# Altium footprint library Common-Parts-Library.PcbLib: 530 footprints (part 28 of 34)
Each footprint in its own frame and in the unit in brackets; x right, y up, seen from the top. Pads: shape width x height; smd on the part's side, far side on the other; paste and mask are expansions set on the pad; w line width, h text height; cw(c..) or ccw(c..) is an arc to the next point about the centre after c.
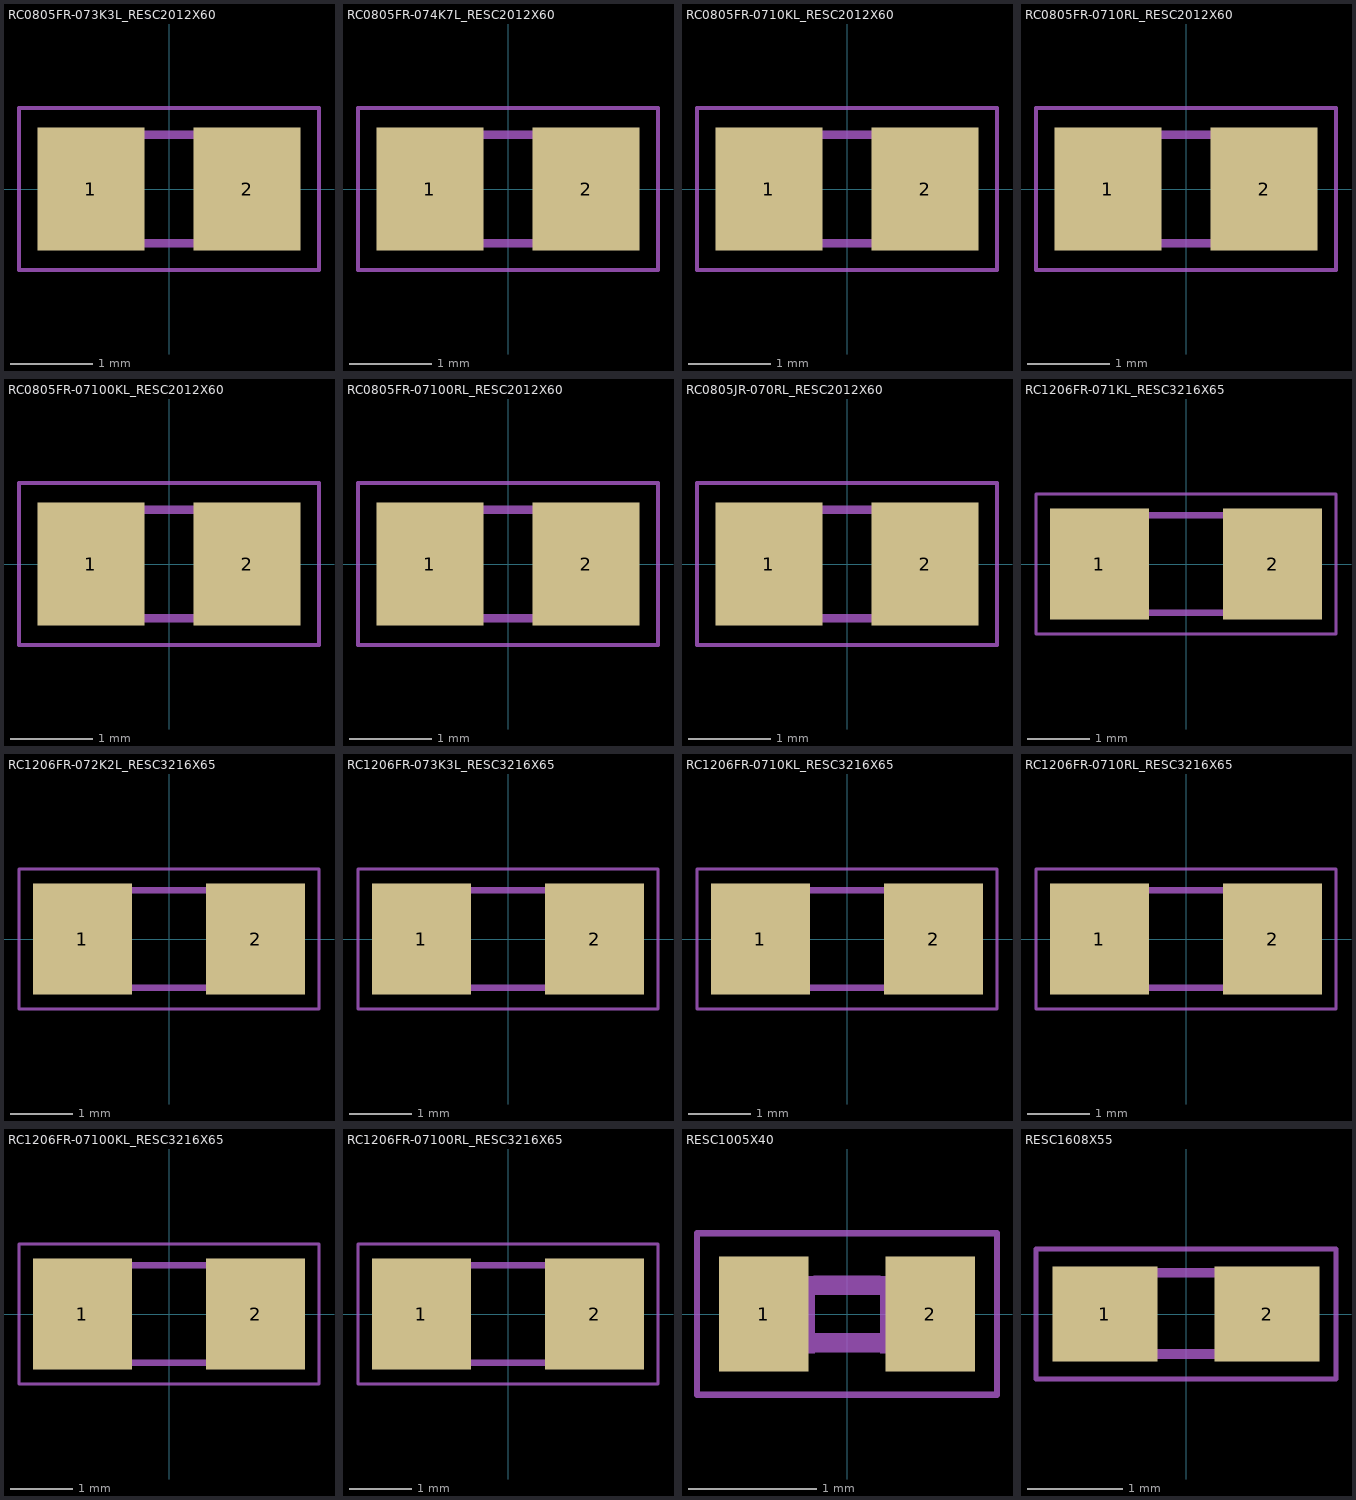
[diagram p27: the footprints below, top view; thin cyan lines are the x and y axes]

## RC0805FR-073K3L_RESC2012X60 [mm]
pads (2):
  rect 1.3x1.5 smd: 1(-0.95,0) 2(0.95,0)
Mechanical 1:
  region: 0.356,0.726 1.106,0.726 1.106,-0.725 0.356,-0.725
  region: -1.095,0.726 -0.342,0.726 -0.342,-0.726 -1.095,-0.726
  lines w0.051: -1.823,-0.983 -1.823,0.983 1.823,0.983 1.823,-0.983 -1.823,-0.983
  lines w0.102: -0.381,0.66 0.381,0.66 ; -0.356,-0.66 0.381,-0.66

## RC0805FR-074K7L_RESC2012X60 [mm]
pads (2):
  rect 1.3x1.5 smd: 1(-0.95,0) 2(0.95,0)
Mechanical 1:
  region: 0.356,0.726 1.106,0.726 1.106,-0.725 0.356,-0.725
  region: -1.095,0.726 -0.342,0.726 -0.342,-0.726 -1.095,-0.726
  lines w0.051: -1.823,-0.983 -1.823,0.983 1.823,0.983 1.823,-0.983 -1.823,-0.983
  lines w0.102: -0.381,0.66 0.381,0.66 ; -0.356,-0.66 0.381,-0.66

## RC0805FR-0710KL_RESC2012X60 [mm]
pads (2):
  rect 1.3x1.5 smd: 1(-0.95,0) 2(0.95,0)
Mechanical 1:
  region: 0.357,0.726 1.106,0.726 1.106,-0.726 0.357,-0.726
  region: -1.094,0.726 -0.342,0.726 -0.342,-0.725 -1.094,-0.725
  lines w0.051: -1.823,-0.983 -1.823,0.983 1.823,0.983 1.823,-0.983 -1.823,-0.983
  lines w0.102: -0.381,0.66 0.381,0.66 ; -0.356,-0.66 0.381,-0.66

## RC0805FR-0710RL_RESC2012X60 [mm]
pads (2):
  rect 1.3x1.5 smd: 1(-0.95,0) 2(0.95,0)
Mechanical 1:
  region: 0.357,0.726 1.106,0.726 1.106,-0.727 0.357,-0.727
  region: -1.095,0.726 -0.342,0.726 -0.342,-0.726 -1.095,-0.726
  lines w0.051: -1.823,-0.983 -1.823,0.983 1.823,0.983 1.823,-0.983 -1.823,-0.983
  lines w0.102: -0.381,0.66 0.381,0.66 ; -0.356,-0.66 0.381,-0.66

## RC0805FR-07100KL_RESC2012X60 [mm]
pads (2):
  rect 1.3x1.5 smd: 1(-0.95,0) 2(0.95,0)
Mechanical 1:
  region: 0.356,0.726 1.106,0.726 1.106,-0.724 0.356,-0.724
  region: -1.094,0.726 -0.342,0.726 -0.342,-0.725 -1.094,-0.725
  lines w0.051: -1.823,-0.983 -1.823,0.983 1.823,0.983 1.823,-0.983 -1.823,-0.983
  lines w0.102: -0.381,0.66 0.381,0.66 ; -0.356,-0.66 0.381,-0.66

## RC0805FR-07100RL_RESC2012X60 [mm]
pads (2):
  rect 1.3x1.5 smd: 1(-0.95,0) 2(0.95,0)
Mechanical 1:
  region: 0.357,0.726 1.106,0.726 1.106,-0.726 0.357,-0.726
  region: -1.094,0.726 -0.342,0.726 -0.342,-0.725 -1.094,-0.725
  lines w0.051: -1.823,-0.983 -1.823,0.983 1.823,0.983 1.823,-0.983 -1.823,-0.983
  lines w0.102: -0.381,0.66 0.381,0.66 ; -0.356,-0.66 0.381,-0.66

## RC0805JR-070RL_RESC2012X60 [mm]
pads (2):
  rect 1.3x1.5 smd: 1(-0.95,0) 2(0.95,0)
Mechanical 1:
  region: 0.356,0.726 1.106,0.726 1.106,-0.726 0.356,-0.726
  region: -1.094,0.726 -0.342,0.726 -0.342,-0.725 -1.094,-0.725
  lines w0.051: -1.823,-0.983 -1.823,0.983 1.823,0.983 1.823,-0.983 -1.823,-0.983
  lines w0.102: -0.381,0.66 0.381,0.66 ; -0.356,-0.66 0.381,-0.66

## RC1206FR-071KL_RESC3216X65 [mm]
pads (2):
  rect 1.6x1.8 smd: 1(-1.4,0) 2(1.4,0)
Mechanical 1:
  lines w0.051: -2.423,-1.133 -2.423,1.133 2.423,1.133 2.423,-1.133 -2.423,-1.133
  lines w0.102: -0.965,-0.787 0.965,-0.787 ; -0.965,0.787 0.965,0.787

## RC1206FR-072K2L_RESC3216X65 [mm]
pads (2):
  rect 1.6x1.8 smd: 1(-1.4,0) 2(1.4,0)
Mechanical 1:
  lines w0.051: -2.423,-1.133 -2.423,1.133 2.423,1.133 2.423,-1.133 -2.423,-1.133
  lines w0.102: -0.965,-0.787 0.965,-0.787 ; -0.965,0.787 0.965,0.787

## RC1206FR-073K3L_RESC3216X65 [mm]
pads (2):
  rect 1.6x1.8 smd: 1(-1.4,0) 2(1.4,0)
Mechanical 1:
  lines w0.051: -2.423,-1.133 -2.423,1.133 2.423,1.133 2.423,-1.133 -2.423,-1.133
  lines w0.102: -0.965,-0.787 0.965,-0.787 ; -0.965,0.787 0.965,0.787

## RC1206FR-0710KL_RESC3216X65 [mm]
pads (2):
  rect 1.6x1.8 smd: 1(-1.4,0) 2(1.4,0)
Mechanical 1:
  lines w0.051: -2.423,-1.133 -2.423,1.133 2.423,1.133 2.423,-1.133 -2.423,-1.133
  lines w0.102: -0.965,-0.787 0.965,-0.787 ; -0.965,0.787 0.965,0.787

## RC1206FR-0710RL_RESC3216X65 [mm]
pads (2):
  rect 1.6x1.8 smd: 1(-1.4,0) 2(1.4,0)
Mechanical 1:
  lines w0.051: -2.423,-1.133 -2.423,1.133 2.423,1.133 2.423,-1.133 -2.423,-1.133
  lines w0.102: -0.965,-0.787 0.965,-0.787 ; -0.965,0.787 0.965,0.787

## RC1206FR-07100KL_RESC3216X65 [mm]
pads (2):
  rect 1.6x1.8 smd: 1(-1.4,0) 2(1.4,0)
Mechanical 1:
  lines w0.051: -2.423,-1.133 -2.423,1.133 2.423,1.133 2.423,-1.133 -2.423,-1.133
  lines w0.102: -0.965,-0.787 0.965,-0.787 ; -0.965,0.787 0.965,0.787

## RC1206FR-07100RL_RESC3216X65 [mm]
pads (2):
  rect 1.6x1.8 smd: 1(-1.4,0) 2(1.4,0)
Mechanical 1:
  lines w0.051: -2.423,-1.133 -2.423,1.133 2.423,1.133 2.423,-1.133 -2.423,-1.133
  lines w0.102: -0.965,-0.787 0.965,-0.787 ; -0.965,0.787 0.965,0.787

## RESC1005X40 [mm]
pads (2):
  rect 0.7x0.9 smd: 1(-0.65,0) 2(0.65,0)
Mechanical 1:
  region: 0.259,0.295 0.559,0.295 0.559,-0.306 0.259,-0.306
  region: -0.556,0.295 -0.254,0.295 -0.254,-0.306 -0.556,-0.306
  lines w0.051: -1.173,-0.633 -1.173,0.633 1.173,0.633 1.173,-0.633 -1.173,-0.633
  lines w0.152: -0.245,-0.224 0.245,-0.224 ; -0.245,0.224 0.245,0.224

## RESC1608X55 [mm]
pads (2):
  rect 1.1x1 smd: 1(-0.85,0) 2(0.85,0)
Mechanical 1:
  region: 0.331,0.48 0.83,0.48 0.83,-0.471 0.331,-0.471
  region: -0.841,0.48 -0.338,0.48 -0.338,-0.472 -0.841,-0.472
  lines w0.051: -1.573,-0.683 -1.573,0.683 1.573,0.683 1.573,-0.683 -1.573,-0.683
  lines w0.102: -0.356,-0.419 0.356,-0.419 ; -0.356,0.432 0.356,0.432